# Altium schematic symbol library SCH - MCU - STM32 - ST MICROELECTRONICS STM32F334R(6-8)TX LQFP64.SchLib: 1 symbol
Pins are listed as number, name and electrical type; pins without a type are passive.

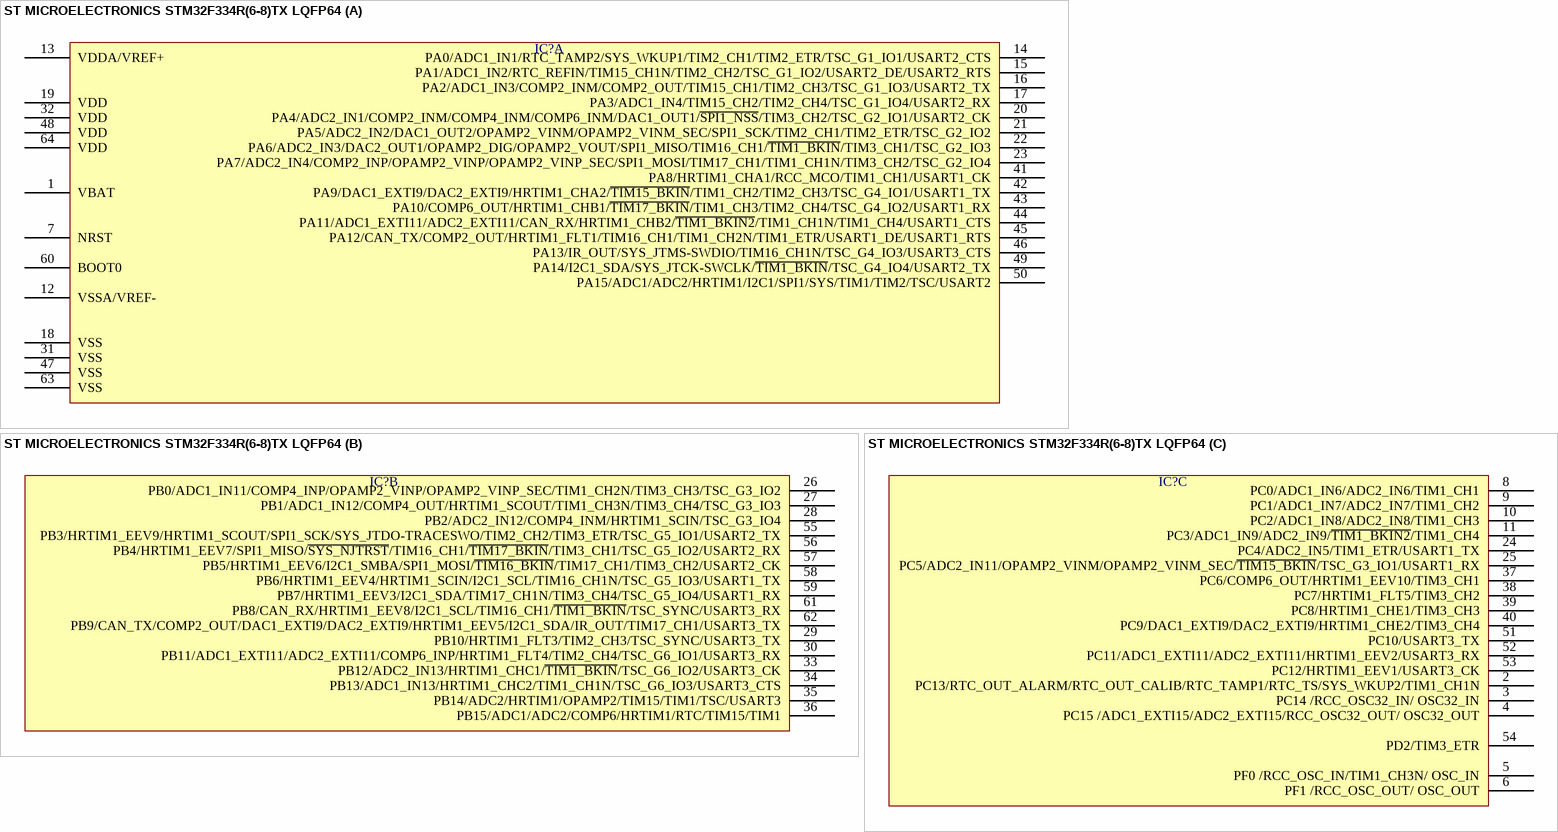
[diagram p0: symbol ST MICROELECTRONICS STM32F334R(6-8)TX LQFP64]

## ST MICROELECTRONICS STM32F334R(6-8)TX LQFP64
designator IC?  (value not drawn)
part A pins: 1 VBAT, 7 NRST, 12 VSSA/VREF-, 13 VDDA/VREF+, 14 PA0/ADC1_IN1/RTC_TAMP2/SYS_WKUP1/TIM2_CH1/TIM2_ETR/TSC_G1_IO1/USART2_CTS, 15 PA1/ADC1_IN2/RTC_REFIN/TIM15_CH1N/TIM2_CH2/TSC_G1_IO2/USART2_DE/USART2_RTS, 16 PA2/ADC1_IN3/COMP2_INM/COMP2_OUT/TIM15_CH1/TIM2_CH3/TSC_G1_IO3/USART2_TX, 17 PA3/ADC1_IN4/TIM15_CH2/TIM2_CH4/TSC_G1_IO4/USART2_RX, 18 VSS, 19 VDD, 20 PA4/ADC2_IN1/COMP2_INM/COMP4_INM/COMP6_INM/DAC1_OUT1/~{SPI1_NSS}/TIM3_CH2/TSC_G2_IO1/USART2_CK, 21 PA5/ADC2_IN2/DAC1_OUT2/OPAMP2_VINM/OPAMP2_VINM_SEC/SPI1_SCK/TIM2_CH1/TIM2_ETR/TSC_G2_IO2, 22 PA6/ADC2_IN3/DAC2_OUT1/OPAMP2_DIG/OPAMP2_VOUT/SPI1_MISO/TIM16_CH1/~{TIM1_BKIN}/TIM3_CH1/TSC_G2_IO3, 23 PA7/ADC2_IN4/COMP2_INP/OPAMP2_VINP/OPAMP2_VINP_SEC/SPI1_MOSI/TIM17_CH1/TIM1_CH1N/TIM3_CH2/TSC_G2_IO4, 31 VSS, 32 VDD, 41 PA8/HRTIM1_CHA1/RCC_MCO/TIM1_CH1/USART1_CK, 42 PA9/DAC1_EXTI9/DAC2_EXTI9/HRTIM1_CHA2/~{TIM15_BKIN}/TIM1_CH2/TIM2_CH3/TSC_G4_IO1/USART1_TX, 43 PA10/COMP6_OUT/HRTIM1_CHB1/~{TIM17_BKIN}/TIM1_CH3/TIM2_CH4/TSC_G4_IO2/USART1_RX, 44 PA11/ADC1_EXTI11/ADC2_EXTI11/CAN_RX/HRTIM1_CHB2/~{TIM1_BKIN2}/TIM1_CH1N/TIM1_CH4/USART1_CTS, 45 PA12/CAN_TX/COMP2_OUT/HRTIM1_FLT1/TIM16_CH1/TIM1_CH2N/TIM1_ETR/USART1_DE/USART1_RTS, 46 PA13/IR_OUT/SYS_JTMS-SWDIO/TIM16_CH1N/TSC_G4_IO3/USART3_CTS, 47 VSS, 48 VDD, 49 PA14/I2C1_SDA/SYS_JTCK-SWCLK/~{TIM1_BKIN}/TSC_G4_IO4/USART2_TX, 50 PA15/ADC1/ADC2/HRTIM1/I2C1/SPI1/SYS/TIM1/TIM2/TSC/USART2, 60 BOOT0, 63 VSS, 64 VDD
part B pins: 26 PB0/ADC1_IN11/COMP4_INP/OPAMP2_VINP/OPAMP2_VINP_SEC/TIM1_CH2N/TIM3_CH3/TSC_G3_IO2, 27 PB1/ADC1_IN12/COMP4_OUT/HRTIM1_SCOUT/TIM1_CH3N/TIM3_CH4/TSC_G3_IO3, 28 PB2/ADC2_IN12/COMP4_INM/HRTIM1_SCIN/TSC_G3_IO4, 29 PB10/HRTIM1_FLT3/TIM2_CH3/TSC_SYNC/USART3_TX, 30 PB11/ADC1_EXTI11/ADC2_EXTI11/COMP6_INP/HRTIM1_FLT4/TIM2_CH4/TSC_G6_IO1/USART3_RX, 33 PB12/ADC2_IN13/HRTIM1_CHC1/~{TIM1_BKIN}/TSC_G6_IO2/USART3_CK, 34 PB13/ADC1_IN13/HRTIM1_CHC2/TIM1_CH1N/TSC_G6_IO3/USART3_CTS, 35 PB14/ADC2/HRTIM1/OPAMP2/TIM15/TIM1/TSC/USART3, 36 PB15/ADC1/ADC2/COMP6/HRTIM1/RTC/TIM15/TIM1, 55 PB3/HRTIM1_EEV9/HRTIM1_SCOUT/SPI1_SCK/SYS_JTDO-TRACESWO/TIM2_CH2/TIM3_ETR/TSC_G5_IO1/USART2_TX, 56 PB4/HRTIM1_EEV7/SPI1_MISO/~{SYS_NJTRST}/TIM16_CH1/~{TIM17_BKIN}/TIM3_CH1/TSC_G5_IO2/USART2_RX, 57 PB5/HRTIM1_EEV6/I2C1_SMBA/SPI1_MOSI/~{TIM16_BKIN}/TIM17_CH1/TIM3_CH2/USART2_CK, 58 PB6/HRTIM1_EEV4/HRTIM1_SCIN/I2C1_SCL/TIM16_CH1N/TSC_G5_IO3/USART1_TX, 59 PB7/HRTIM1_EEV3/I2C1_SDA/TIM17_CH1N/TIM3_CH4/TSC_G5_IO4/USART1_RX, 61 PB8/CAN_RX/HRTIM1_EEV8/I2C1_SCL/TIM16_CH1/~{TIM1_BKIN}/TSC_SYNC/USART3_RX, 62 PB9/CAN_TX/COMP2_OUT/DAC1_EXTI9/DAC2_EXTI9/HRTIM1_EEV5/I2C1_SDA/IR_OUT/TIM17_CH1/USART3_TX
part C pins: 2 PC13/RTC_OUT_ALARM/RTC_OUT_CALIB/RTC_TAMP1/RTC_TS/SYS_WKUP2/TIM1_CH1N, 3 PC14 /RCC_OSC32_IN/ OSC32_IN, 4 PC15 /ADC1_EXTI15/ADC2_EXTI15/RCC_OSC32_OUT/ OSC32_OUT, 5 PF0 /RCC_OSC_IN/TIM1_CH3N/ OSC_IN, 6 PF1 /RCC_OSC_OUT/ OSC_OUT, 8 PC0/ADC1_IN6/ADC2_IN6/TIM1_CH1, 9 PC1/ADC1_IN7/ADC2_IN7/TIM1_CH2, 10 PC2/ADC1_IN8/ADC2_IN8/TIM1_CH3, 11 PC3/ADC1_IN9/ADC2_IN9/~{TIM1_BKIN2}/TIM1_CH4, 24 PC4/ADC2_IN5/TIM1_ETR/USART1_TX, 25 PC5/ADC2_IN11/OPAMP2_VINM/OPAMP2_VINM_SEC/~{TIM15_BKIN}/TSC_G3_IO1/USART1_RX, 37 PC6/COMP6_OUT/HRTIM1_EEV10/TIM3_CH1, 38 PC7/HRTIM1_FLT5/TIM3_CH2, 39 PC8/HRTIM1_CHE1/TIM3_CH3, 40 PC9/DAC1_EXTI9/DAC2_EXTI9/HRTIM1_CHE2/TIM3_CH4, 51 PC10/USART3_TX, 52 PC11/ADC1_EXTI11/ADC2_EXTI11/HRTIM1_EEV2/USART3_RX, 53 PC12/HRTIM1_EEV1/USART3_CK, 54 PD2/TIM3_ETR